# Altium footprint library OSP_Footprints.PcbLib: 50 footprints (part 2 of 4)
Each footprint in its own frame and in the unit in brackets; x right, y up, seen from the top. Pads: shape width x height; smd on the part's side, far side on the other; paste and mask are expansions set on the pad; w line width, h text height; cw(c..) or ccw(c..) is an arc to the next point about the centre after c.
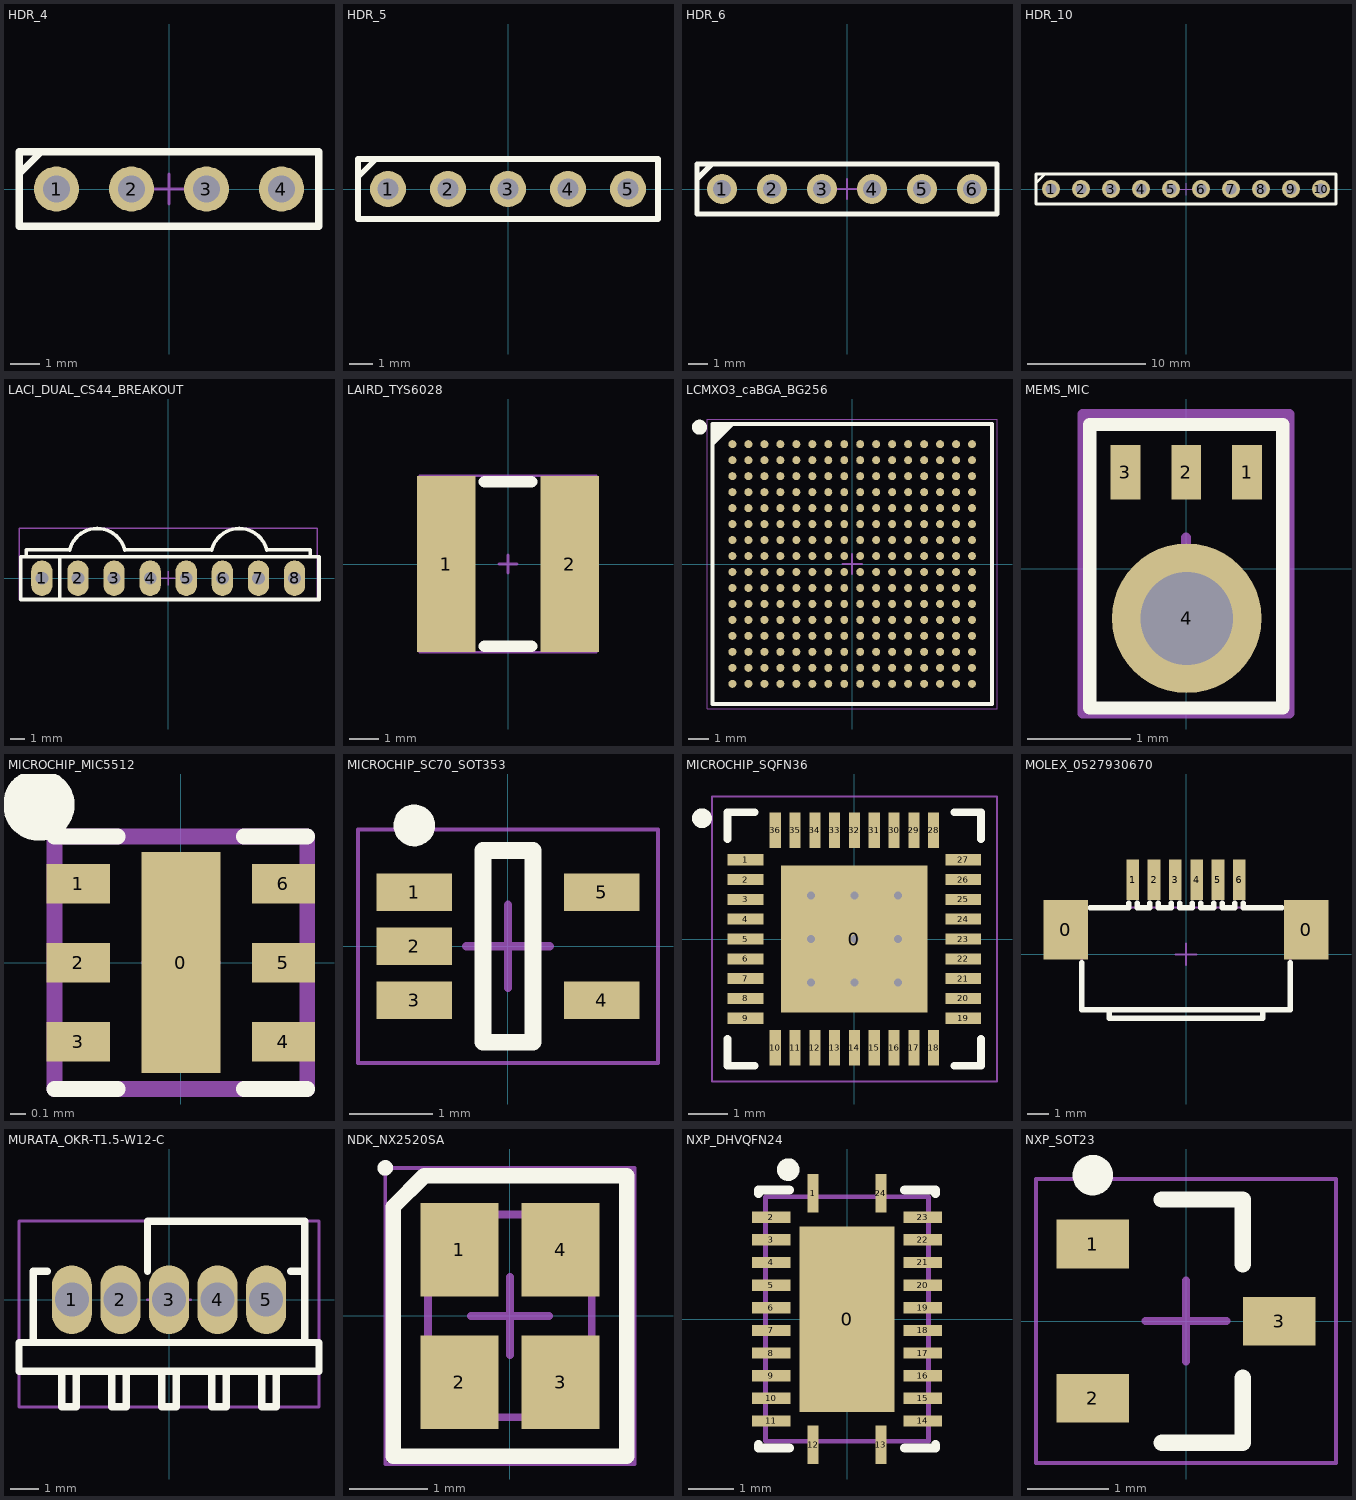
[diagram p1: the footprints below, top view; thin cyan lines are the x and y axes]

## HDR_4 [mil] "4-pin 0.1\" header"
height 400
pads (4):
  round 60 hole 35.43: 1(-150,0) 2(-50,0) 3(50,0) 4(150,0)
Top Overlay:
  lines w10: -200,20 -170,50 ; -200,-50 -200,50 200,50 200,-50 -200,-50
Mechanical 15:
  lines w3.94: -20,0 20,0 ; 0,-20 0,20 ; -200,-50 -200,50 200,50 200,-50 -200,-50
3D body: height 400, standoff -80, extent 35,-15 65,15
3D body: height 400, standoff -80, extent -65,-15 -35,15
3D body: height 400, standoff -80, extent -165,-15 -135,15
3D body: height 100, standoff 0, extent -200,-50 200,50
3D body: height 400, standoff -80, extent 135,-15 165,15

## HDR_5 [mil] "5-pin 0.1\" header"
height 400
pads (5):
  round 60 hole 35.43: 1(-200,0) 2(-100,0) 3(0,0) 4(100,0) 5(200,0)
Top Overlay:
  lines w10: -250,20 -220,50 ; -250,-50 -250,50 250,50 250,-50 -250,-50
Mechanical 15:
  lines w3.94: -20,0 20,0 ; 0,-20 0,20 ; -250,-50 -250,50 250,50 250,-50 -250,-50
3D body: height 400, standoff -80, extent 185,-15 215,15
3D body: height 400, standoff -80, extent -15,-15 15,15
3D body: height 400, standoff -80, extent -115,-15 -85,15
3D body: height 400, standoff -80, extent -215,-15 -185,15
3D body: height 100, standoff 0, extent -250,-50 250,50
3D body: height 400, standoff -80, extent 85,-15 115,15

## HDR_6 [mil] "6-pin 0.1\" header"
height 400
pads (6):
  round 60 hole 35.43: 1(-250,0) 2(-150,0) 3(-50,0) 4(50,0) 5(150,0) 6(250,0)
Top Overlay:
  lines w10: -300,20 -270,50 ; -300,-50 -300,50 300,50 300,-50 -300,-50
Mechanical 15:
  lines w3.94: -20,0 20,0 ; 0,-20 0,20 ; -300,-50 -300,50 300,50 300,-50 -300,-50
3D body: height 400, standoff -80, extent 235,-15 265,15
3D body: height 400, standoff -80, extent 135,-15 165,15
3D body: height 400, standoff -80, extent -65,-15 -35,15
3D body: height 400, standoff -80, extent -165,-15 -135,15
3D body: height 400, standoff -80, extent -265,-15 -235,15
3D body: height 100, standoff 0, extent -300,-50 300,50
3D body: height 400, standoff -80, extent 35,-15 65,15

## HDR_10 [mil] "10-pin 0.1\" header"
height 400
pads (10):
  round 60 hole 35.43: 1(-450,0) 2(-350,0) 3(-250,0) 4(-150,0) 5(-50,0) 6(50,0) 7(150,0) 8(250,0) 9(350,0) 10(450,0)
Top Overlay:
  lines w10: -500,20 -470,50 ; -500,-50 -500,50 500,50 500,-50 -500,-50
Mechanical 15:
  lines w3.94: -20,0 20,0 ; 0,-20 0,20 ; -500,-50 -500,50 500,50 500,-50 -500,-50
3D body: height 400, standoff -80, extent -65,-15 -35,15
3D body: height 400, standoff -80, extent -265,-15 -235,15
3D body: height 400, standoff -80, extent -365,-15 -335,15
3D body: height 400, standoff -80, extent -465,-15 -435,15
3D body: height 100, standoff 0, extent -500,-50 500,50
3D body: height 400, standoff -80, extent -165,-15 -135,15
3D body: height 400, standoff -80, extent 335,-15 365,15
3D body: height 400, standoff -80, extent 35,-15 65,15
3D body: height 400, standoff -80, extent 135,-15 165,15
3D body: height 400, standoff -80, extent 235,-15 265,15
3D body: height 400, standoff -80, extent 435,-15 465,15

## LACI_DUAL_CS44_BREAKOUT [mm] "LACI Dual Sonion CS44 Breakout Board"
height 14
pads (8):
  oval 1.5x2.5 hole 0.9: 1(-8.89,0) 2(-6.35,0) 3(-3.81,0) 4(-1.27,0) 5(1.27,0) 6(3.81,0) 7(6.35,0) 8(8.89,0)
Top Overlay:
  lines w0.254: -10,1.5 -10,2 -7,2 ; -7.62,-1.5 -7.62,1.5 ; -6.94,1.985 cw(c-5,1.5) -3.06,1.985 ; -3,2 3,2 ; 3.06,1.985 cw(c5,1.5) 6.94,1.985 ; 7,2 10,2 10,1.5 ; -10.39,-1.5 -10.39,1.5 10.61,1.5 10.61,-1.5 -10.39,-1.5
Mechanical 15:
  lines w0.1: -0.5,0 0.5,0 ; 0,-0.5 0,0.5 ; -10.5,-1.5 -10.5,3.5 10.5,3.5 10.5,-1.5 -10.5,-1.5
3D body: height 25.5, standoff 11.5, extent 3,-0.5 7,3.5
3D body: height 25.5, standoff 11.5, extent -7,-0.5 -3,3.5
3D body: height 11.5, standoff 1.5, extent -9.75,1 9.75,2
3D body: height 1.5, standoff 0, extent -10.16,-1.27 10.16,1.27

## LAIRD_TYS6028 [mm] "Laird TYS6028 series inductor"
height 2.8
pads (2):
  rect 2x6 smd: 1(-2.1,0) 2(2.1,0)
Top Overlay:
  lines w0.4: -0.8,-2.8 0.8,-2.8 ; -0.8,2.8 0.8,2.8
Mechanical 15:
  lines w0.1: -0.3,0 0.3,0 ; 0,-0.3 0,0.3 ; -3,-3 3,-3 3,3 -3,3 -3,-3
3D body: height 2.8, standoff 2.3, extent -2.2,-3 2.2,3
3D body: height 0.5, standoff 0, extent -3,-3 3,3
3D body: height 2.8, standoff 0, extent -3,-3 3,3

## LCMXO3_caBGA_BG256 [mm] "BGA, 256-Leads, Body 14.00x14.00mmx1.70mm, Pitch 0.80mm"
height 1.7
pads (256):
  round 0.4 smd: A1(-6,6) A2(-5.2,6) A3(-4.4,6) A4(-3.6,6) A5(-2.8,6) A6(-2,6) A7(-1.2,6) A8(-0.4,6) A9(0.4,6) A10(1.2,6) A11(2,6) A12(2.8,6) A13(3.6,6) A14(4.4,6) A15(5.2,6) A16(6,6) B1(-6,5.2) B2(-5.2,5.2) B3(-4.4,5.2) B4(-3.6,5.2) B5(-2.8,5.2) B6(-2,5.2) B7(-1.2,5.2) B8(-0.4,5.2) B9(0.4,5.2) B10(1.2,5.2) B11(2,5.2) B12(2.8,5.2) B13(3.6,5.2) B14(4.4,5.2) B15(5.2,5.2) B16(6,5.2) C1(-6,4.4) C2(-5.2,4.4) C3(-4.4,4.4) C4(-3.6,4.4) C5(-2.8,4.4) C6(-2,4.4) C7(-1.2,4.4) C8(-0.4,4.4) C9(0.4,4.4) C10(1.2,4.4) C11(2,4.4) C12(2.8,4.4) C13(3.6,4.4) C14(4.4,4.4) C15(5.2,4.4) C16(6,4.4) D1(-6,3.6) D2(-5.2,3.6) D3(-4.4,3.6) D4(-3.6,3.6) D5(-2.8,3.6) D6(-2,3.6) D7(-1.2,3.6) D8(-0.4,3.6) D9(0.4,3.6) D10(1.2,3.6) D11(2,3.6) D12(2.8,3.6) D13(3.6,3.6) D14(4.4,3.6) D15(5.2,3.6) D16(6,3.6) E1(-6,2.8) E2(-5.2,2.8) E3(-4.4,2.8) E4(-3.6,2.8) E5(-2.8,2.8) E6(-2,2.8) E7(-1.2,2.8) E8(-0.4,2.8) E9(0.4,2.8) E10(1.2,2.8) E11(2,2.8) E12(2.8,2.8) E13(3.6,2.8) E14(4.4,2.8) E15(5.2,2.8) E16(6,2.8) F1(-6,2) F2(-5.2,2) F3(-4.4,2) F4(-3.6,2) F5(-2.8,2) F6(-2,2) F7(-1.2,2) F8(-0.4,2) F9(0.4,2) F10(1.2,2) F11(2,2) F12(2.8,2) F13(3.6,2) F14(4.4,2) F15(5.2,2) F16(6,2) G1(-6,1.2) G2(-5.2,1.2) G3(-4.4,1.2) G4(-3.6,1.2) G5(-2.8,1.2) G6(-2,1.2) G7(-1.2,1.2) G8(-0.4,1.2) G9(0.4,1.2) G10(1.2,1.2) G11(2,1.2) G12(2.8,1.2) G13(3.6,1.2) G14(4.4,1.2) G15(5.2,1.2) G16(6,1.2) H1(-6,0.4) H2(-5.2,0.4) H3(-4.4,0.4) H4(-3.6,0.4) H5(-2.8,0.4) H6(-2,0.4) H7(-1.2,0.4) H8(-0.4,0.4) H9(0.4,0.4) H10(1.2,0.4) H11(2,0.4) H12(2.8,0.4) H13(3.6,0.4) H14(4.4,0.4) H15(5.2,0.4) H16(6,0.4) J1(-6,-0.4) J2(-5.2,-0.4) J3(-4.4,-0.4) J4(-3.6,-0.4) J5(-2.8,-0.4) J6(-2,-0.4) J7(-1.2,-0.4) J8(-0.4,-0.4) J9(0.4,-0.4) J10(1.2,-0.4) J11(2,-0.4) J12(2.8,-0.4) J13(3.6,-0.4) J14(4.4,-0.4) J15(5.2,-0.4) J16(6,-0.4) K1(-6,-1.2) K2(-5.2,-1.2) K3(-4.4,-1.2) K4(-3.6,-1.2) K5(-2.8,-1.2) K6(-2,-1.2) K7(-1.2,-1.2) K8(-0.4,-1.2) K9(0.4,-1.2) K10(1.2,-1.2) K11(2,-1.2) K12(2.8,-1.2) K13(3.6,-1.2) K14(4.4,-1.2) K15(5.2,-1.2) K16(6,-1.2) L1(-6,-2) L2(-5.2,-2) L3(-4.4,-2) L4(-3.6,-2) L5(-2.8,-2) L6(-2,-2) L7(-1.2,-2) L8(-0.4,-2) L9(0.4,-2) L10(1.2,-2) L11(2,-2) L12(2.8,-2) L13(3.6,-2) L14(4.4,-2) L15(5.2,-2) L16(6,-2) M1(-6,-2.8) M2(-5.2,-2.8) M3(-4.4,-2.8) M4(-3.6,-2.8) M5(-2.8,-2.8) M6(-2,-2.8) M7(-1.2,-2.8) M8(-0.4,-2.8) M9(0.4,-2.8) M10(1.2,-2.8) M11(2,-2.8) M12(2.8,-2.8) M13(3.6,-2.8) M14(4.4,-2.8) M15(5.2,-2.8) M16(6,-2.8) N1(-6,-3.6) N2(-5.2,-3.6) N3(-4.4,-3.6) N4(-3.6,-3.6) N5(-2.8,-3.6) N6(-2,-3.6) N7(-1.2,-3.6) N8(-0.4,-3.6) N9(0.4,-3.6) N10(1.2,-3.6) N11(2,-3.6) N12(2.8,-3.6) N13(3.6,-3.6) N14(4.4,-3.6) N15(5.2,-3.6) N16(6,-3.6) P1(-6,-4.4) P2(-5.2,-4.4) P3(-4.4,-4.4) P4(-3.6,-4.4) P5(-2.8,-4.4) P6(-2,-4.4) P7(-1.2,-4.4) P8(-0.4,-4.4) P9(0.4,-4.4) P10(1.2,-4.4) P11(2,-4.4) P12(2.8,-4.4) P13(3.6,-4.4) P14(4.4,-4.4) P15(5.2,-4.4) P16(6,-4.4) R1(-6,-5.2) R2(-5.2,-5.2) R3(-4.4,-5.2) R4(-3.6,-5.2) R5(-2.8,-5.2) R6(-2,-5.2) R7(-1.2,-5.2) R8(-0.4,-5.2) R9(0.4,-5.2) R10(1.2,-5.2) R11(2,-5.2) R12(2.8,-5.2) R13(3.6,-5.2) R14(4.4,-5.2) R15(5.2,-5.2) R16(6,-5.2) T1(-6,-6) T2(-5.2,-6) T3(-4.4,-6) T4(-3.6,-6) T5(-2.8,-6) T6(-2,-6) T7(-1.2,-6) T8(-0.4,-6) T9(0.4,-6) T10(1.2,-6) T11(2,-6) T12(2.8,-6) T13(3.6,-6) T14(4.4,-6) T15(5.2,-6) T16(6,-6)
Top Overlay:
  circle w0.5: c-7.65,6.85 r0.125
  region: -6,7 -7,6 -7,7
  lines w0.2: -7,6 -6,7 ; -7,-7 -7,7 7,7 7,-7 -7,-7
Mechanical 15:
  lines w0.05: -7.25,-7.25 -7.25,7.25 7.25,7.25 7.25,-7.25 -7.25,-7.25
  lines w0.1: -0.5,0 0.5,0 ; 0,-0.5 0,0.5
3D body "LCMXO3_caBGA_BG256.step": height 1.7, standoff 0, extent -7,-7 7,7

## MEMS_MIC [mm] "Generic 3-pin bottom mount MEMS mic"
height 0.9
pads (4):
  rect 0.29x0.53 smd: 1(0.592,0.935) 2(0.002,0.935) 3(-0.588,0.935)
  round 1.45 hole 0.9: 4(0.007,-0.48)
Top Overlay:
  lines w0.127: -0.933,-1.35 0.937,-1.35 0.937,1.4 -0.933,1.4 -0.933,-1.35
Bottom Overlay:
  circle w0.127: c0.007,-0.48 r0.927
Mechanical 15:
  lines w0.1: -0.3,0 0.3,0 ; 0,-0.3 0,0.3 ; -1,-1.4 -1,1.5 1,1.5 1,-1.4 -1,-1.4
3D body: height 0.9, standoff 0.29, extent -0.838,-1.3 0.837,1.3
3D body: height 0.29, standoff 0.05, extent -0.938,-1.35 0.937,1.4

## MICROCHIP_MIC5512 [mm] "Microchip MIC5512-1.2YMT"
height 0.55
pads (7):
  rect 0.5x1.4 smd mask+0.05: 0(0,0)
  rect 0.4x0.25 smd mask+0.05: 1(-0.65,0.5) 2(-0.65,0) 3(-0.65,-0.5) 4(0.65,-0.5) 5(0.65,0) 6(0.65,0.5)
Top Overlay:
  circle w0.254: c-0.9,1 r0.1
  lines w0.1: -0.8,-0.8 -0.4,-0.8 ; -0.8,0.8 -0.4,0.8 ; 0.4,-0.8 0.8,-0.8 ; 0.4,0.8 0.8,0.8
Mechanical 15:
  lines w0.1: -0.2,0 0.2,0 ; 0,-0.2 0,0.2 ; -0.8,-0.8 0.8,-0.8 0.8,0.8 -0.8,0.8 -0.8,-0.8
3D body: height 0.55, standoff 0.05, extent -0.8,-0.8 0.8,0.8

## MICROCHIP_SC70_SOT353 [mm] "SC70 / SOT353, 5-Leads, Body 2.03x2.10mm, Pitch 0.65mm, IPC Medium Density"
height 1.1
pads (5):
  rect 0.9x0.45 smd: 1(-1.125,0.65) 2(-1.125,0) 3(-1.125,-0.65) 4(1.125,-0.65) 5(1.125,0.65)
Top Overlay:
  circle w0.25: c-1.125,1.45 r0.125
  lines w0.2: -0.3,-1.15 0.3,-1.15 0.3,1.15 -0.3,1.15 -0.3,-1.15
Mechanical 15:
  lines w0.05: -1.8,-1.4 -1.8,1.4 1.8,1.4 1.8,-1.4 -1.8,-1.4
  lines w0.1: -0.5,0 0.5,0 ; 0,-0.5 0,0.5
3D body "MICROCHIP_SC70_SOT353_2.step": height 1.1, standoff 0, extent -1.3,-1.125 1.3,1.125

## MICROCHIP_SQFN36 [mm] "Microchip 36-pin SQFN package from USB2514B-I/M2 datasheet"
height 1
pads (37):
  rect 3.7x3.7 smd: 0(0,0)
  rect 0.9x0.28 smd mask+0.114: 1(-2.75,2) 2(-2.75,1.5) 3(-2.75,1) 4(-2.75,0.5) 5(-2.75,0) 6(-2.75,-0.5) 7(-2.75,-1) 8(-2.75,-1.5) 9(-2.75,-2) 19(2.75,-2) 20(2.75,-1.5) 21(2.75,-1) 22(2.75,-0.5) 23(2.75,0) 24(2.75,0.5) 25(2.75,1) 26(2.75,1.5) 27(2.75,2)
  rect 0.28x0.9 smd mask+0.114: 10(-2,-2.75) 11(-1.5,-2.75) 12(-1,-2.75) 13(-0.5,-2.75) 14(0,-2.75) 15(0.5,-2.75) 16(1,-2.75) 17(1.5,-2.75) 18(2,-2.75) 28(2,2.75) 29(1.5,2.75) 30(1,2.75) 31(0.5,2.75) 32(0,2.75) 33(-0.5,2.75) 34(-1,2.75) 35(-1.5,2.75) 36(-2,2.75)
via 1.1,-1.1 diameter 0.5 hole 0.2
via 0,-1.1 diameter 0.5 hole 0.2
via -1.1,-1.1 diameter 0.5 hole 0.2
via 1.1,0 diameter 0.5 hole 0.2
via 0,0 diameter 0.5 hole 0.2
via -1.1,0 diameter 0.5 hole 0.2
via 1.1,1.1 diameter 0.5 hole 0.2
via 0,1.1 diameter 0.5 hole 0.2
via -1.1,1.1 diameter 0.5 hole 0.2
Top Overlay:
  circle w0.25: c-3.85,3.05 r0.125
  lines w0.2: -3.2,-2.525 -3.2,-3.2 -2.525,-3.2 ; -3.2,2.525 -3.2,3.2 -2.525,3.2 ; 2.525,-3.2 3.2,-3.2 3.2,-2.525 ; 2.525,3.2 3.2,3.2 3.2,2.525
Mechanical 15:
  lines w0.05: -3.6,-3.6 3.6,-3.6 3.6,3.6 -3.6,3.6 -3.6,-3.6
  lines w0.1: -0.5,0 0.5,0 ; 0,-0.5 0,0.5
3D body "QFN50P600X600X100_HS-37N.step": height 1, standoff 0, extent -3.07,-3.07 3.07,3.07

## MOLEX_0527930670 [mm] "Molex 0527930670 6-pin flat flexible cable connector"
pads (8):
  rect 2.1x2.8 smd: 0(-5.65,1.15) 0(5.65,1.15)
  rect 0.6x1.9 smd: 1(-2.5,3.5) 2(-1.5,3.5) 3(-0.5,3.5) 4(0.5,3.5) 5(1.5,3.5) 6(2.5,3.5)
Top Overlay:
  lines w0.254: -4.9,-0.4 -4.9,-2.6 4.9,-2.6 4.9,-0.4 ; -4.5,2.2 -2.7,2.2 -2.7,2.4 ; -3.6,-2.6 -3.6,-3 3.6,-3 3.6,-2.6 ; -2.3,2.4 -2.3,2.2 -1.7,2.2 -1.7,2.4 ; -1.3,2.4 -1.3,2.2 -0.7,2.2 -0.7,2.4 ; -0.3,2.4 -0.3,2.2 0.3,2.2 0.3,2.4 ; 0.7,2.4 0.7,2.2 1.3,2.2 1.3,2.4 ; 1.7,2.4 1.7,2.2 2.3,2.2 2.3,2.4 ; 2.7,2.4 2.7,2.2 4.5,2.2
Mechanical 15:
  lines w0.1: -0.5,0 0.5,0 ; 0,-0.5 0,0.5 ; -4.9,-2.6 4.9,-2.6 4.9,2.2 -4.9,2.2 -4.9,-2.6
3D body: height 3.1, standoff 0, extent -4.9,-2.6 4.9,2.2
3D body: height 0.3, standoff 0, extent -2.7,1.9 -2.3,4.1
3D body: height 0.3, standoff 0, extent -1.7,1.9 -1.3,4.1
3D body: height 0.3, standoff 0, extent -0.7,1.9 -0.3,4.1
3D body: height 0.3, standoff 0, extent 0.3,1.9 0.7,4.1
3D body: height 0.3, standoff 0, extent 1.3,1.9 1.7,4.1
3D body: height 0.3, standoff 0, extent 2.3,1.9 2.7,4.1
3D body: height 0.3, standoff 0, extent -6.2,0.3 -4.6,2
3D body: height 0.3, standoff 0, extent 4.6,0.3 6.2,2

## MURATA_OKR-T1.5-W12-C [mm] "Murata Adjustable DC-DC"
height 10.16
pads (5):
  oval 1.4x2.4 hole 1.19: 1(-3.4,0) 2(-1.7,0) 3(0,0) 4(1.7,0) 5(3.4,0)
Top Overlay:
  lines w0.254: -4.75,-1.5 -4.75,1 -4.25,1 ; -3.75,-2.5 -3.75,-3.75 -3.25,-3.75 -3.25,-2.5 ; -2,-2.5 -2,-3.75 -1.5,-3.75 -1.5,-2.5 ; -0.75,1 -0.75,2.75 4.75,2.75 4.75,-1.5 ; -0.25,-2.5 -0.25,-3.75 0.25,-3.75 0.25,-2.5 ; 1.5,-2.5 1.5,-3.75 2,-3.75 2,-2.5 ; 3.25,-2.5 3.25,-3.75 3.75,-3.75 3.75,-2.5 ; 4.25,1 4.75,1 ; -5.25,-2.5 5.25,-2.5 5.25,-1.5 -5.25,-1.5 -5.25,-2.5
Mechanical 15:
  lines w0.1: -0.75,0 0.75,0 ; 0,-0.75 0,0.75 ; -5.25,-3.75 -5.25,2.75 5.25,2.75 5.25,-3.75 -5.25,-3.75
3D body: height 2, standoff 0, extent -4.75,-1.5 4.75,1
3D body: height 9, standoff 4, extent -0.75,-1.5 4.75,2.75
3D body: height 10.16, standoff 0, extent -5.25,-2.5 5.25,-1.5

## NDK_NX2520SA [mm] "NDK Crystal"
height 0.65
pads (4):
  rect 1x1.2 smd: 1(-0.65,0.85) 2(-0.65,-0.85) 3(0.65,-0.85) 4(0.65,0.85)
Top Overlay:
  circle w0.1: c-1.6,1.9 r0.05
  lines w0.2: -1.5,-1.8 -1.5,1.4 -1.1,1.8 1.5,1.8 1.5,-1.8 -1.5,-1.8
Mechanical 13:
  lines w0.1: -1.05,-1.3 -1.05,1.3 1.05,1.3 1.05,-1.3 -1.05,-1.3
Mechanical 15:
  lines w0.05: -1.6,-1.9 -1.6,1.9 1.6,1.9 1.6,-1.9 -1.6,-1.9
  lines w0.1: -0.5,0 0.5,0 ; 0,-0.5 0,0.5
3D body "NDK NX2520SA.STEP": height 0.5, standoff 0, extent -1.01,-1.26 1.01,1.26

## NXP_DHVQFN24 [mm] "QFN, 24-Leads, Body 3.50x5.50mm, Pitch 1.50mm/0.50mm, Thermal Pad 2.10x4.10mm, IPC Medium Density"
height 1
pads (25):
  rect 2.1x4.1 smd: 0(0,0)
  rect 0.25x0.85 smd: 1(-0.75,2.775) 12(-0.75,-2.775) 13(0.75,-2.775) 24(0.75,2.775)
  rect 0.85x0.25 smd: 2(-1.675,2.25) 3(-1.675,1.75) 4(-1.675,1.25) 5(-1.675,0.75) 6(-1.675,0.25) 7(-1.675,-0.25) 8(-1.675,-0.75) 9(-1.675,-1.25) 10(-1.675,-1.75) 11(-1.675,-2.25) 14(1.675,-2.25) 15(1.675,-1.75) 16(1.675,-1.25) 17(1.675,-0.75) 18(1.675,-0.25) 19(1.675,0.25) 20(1.675,0.75) 21(1.675,1.25) 22(1.675,1.75) 23(1.675,2.25)
Top Overlay:
  circle w0.25: c-1.3,3.3 r0.125
  lines w0.2: -1.95,-2.775 -1.95,-2.85 -1.275,-2.85 ; -1.95,2.775 -1.95,2.85 -1.275,2.85 ; 1.275,-2.85 1.95,-2.85 1.95,-2.775 ; 1.275,2.85 1.95,2.85 1.95,2.775
Top Solder:
  rectangle: -2.205,-2.1 2.205,2.1
Mechanical 15:
  lines w0.1: -0.3,0 0.3,0 ; 0,-0.3 0,0.3 ; -1.8,-2.7 -1.8,2.7 1.8,2.7 1.8,-2.7 -1.8,-2.7
3D body "NXP_DHVQFN24.step": height 1, standoff 0, extent -1.85,-2.75 1.85,2.75

## NXP_SOT23 [mm] "NXP SOT23 from PMV30XPEA"
height 1.1
pads (3):
  rect 0.9x0.6 smd: 1(-1.15,0.95) 2(-1.15,-0.95) 3(1.15,0)
Top Overlay:
  circle w0.25: c-1.15,1.8 r0.125
  lines w0.2: -0.3,-1.5 0.7,-1.5 0.7,-0.7 ; -0.3,1.5 0.7,1.5 0.7,0.7
Mechanical 15:
  lines w0.05: -1.85,-1.75 -1.85,1.75 1.85,1.75 1.85,-1.75 -1.85,-1.75
  lines w0.1: -0.5,0 0.5,0 ; 0,-0.5 0,0.5
3D body "NXP_SOT23.step": height 1.1, standoff 0, extent -1.3,-1.5 1.3,1.5